# Altium integrated library varistors.IntLib: 2 symbols
Pins are listed as number, name and electrical type; pins without a type are passive.

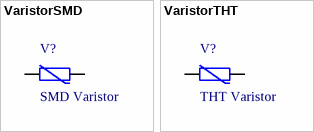
[diagram p0: symbols VaristorSMD to VaristorTHT]

## VaristorSMD
designator V?, comment SMD Varistor
Published: 19-Feb-2006; Value: *
footprint V0201
footprint V0402
footprint V0603
footprint V0805
footprint V1206
footprint V1210
footprint V1812 (1812 size SMD resistor)
footprint V2512 (2512 size SMD resistor)
pins: 1, 2

## VaristorTHT
designator V?, comment THT Varistor
Published: 19-Feb-2006; Value: *
footprint SIOV-S05K11
footprint SIOV-S07K11
footprint SIOV-S10K11
footprint SIOV-S14K11
footprint SIOV-S20K11
pins: 1, 2